# EAGLE library part LTM8062 (library Neel)
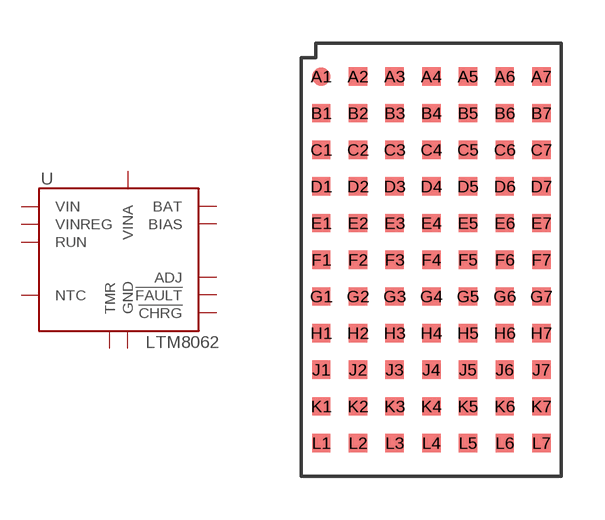
[diagram p81: symbol with the pads of LGA-77; footprint LGA-77]

Designator prefix -

## LTM8062  [LGA-77]
A1  GND
A2  GND
A3  GND
A4  GND
A5  GND
A6  BAT
A7  BAT
B1  GND
B2  GND
B3  GND
B4  GND
B5  GND
B6  BAT
B7  BAT
C1  GND
C2  GND
C3  GND
C4  GND
C5  GND
C6  BAT
C7  BAT
D1  GND
D2  GND
D3  GND
D4  GND
D5  GND
D6  BAT
D7  BAT
E1  GND
E2  GND
E3  GND
E4  GND
E5  GND
E6  BAT
E7  BAT
F1  GND
F2  GND
F3  GND
F4  GND
F5  GND
F6  BAT
F7  BAT
G1  GND
G2  GND
G3  GND
G4  GND
G5  GND
G6  GND
G7  BIAS
H1  GND
H2  GND
H3  GND
H4  GND
H5  GND
H6  NTC
H7  ADJ
J1  GND
J2  GND
J3  GND
J4  GND
J5  GND
J6  TMR
J7  !FAULT
K1  VIN
K2  VIN
K3  VIN
K4  VINA
K5  VINA
K6  RUN
K7  !CHRG
L1  VIN
L2  VIN
L3  VIN
L4  VINA
L5  VINA
L6  VINREG
L7  GND

## Footprint LGA-77 (pad centres in mm)
smd 0.635 x 0.635: A1 -3.81,6.35; A2 -2.54,6.35; A3 -1.27,6.35; A4 0,6.35; A5 1.27,6.35; A6 2.54,6.35; A7 3.81,6.35; B1 -3.81,5.08; B2 -2.54,5.08; B3 -1.27,5.08; B4 0,5.08; B5 1.27,5.08; B6 2.54,5.08; B7 3.81,5.08; C1 -3.81,3.81; C2 -2.54,3.81; C3 -1.27,3.81; C4 0,3.81; C5 1.27,3.81; C6 2.54,3.81; C7 3.81,3.81; D1 -3.81,2.54; D2 -2.54,2.54; D3 -1.27,2.54; D4 0,2.54; D5 1.27,2.54; D6 2.54,2.54; D7 3.81,2.54; E1 -3.81,1.27; E2 -2.54,1.27; E3 -1.27,1.27; E4 0,1.27; E5 1.27,1.27; E6 2.54,1.27; E7 3.81,1.27; F1 -3.81,0; F2 -2.54,0; F3 -1.27,0; F4 0,0; F5 1.27,0; F6 2.54,0; F7 3.81,0; G1 -3.81,-1.27; G2 -2.54,-1.27; G3 -1.27,-1.27; G4 0,-1.27; G5 1.27,-1.27; G6 2.54,-1.27; G7 3.81,-1.27; H1 -3.81,-2.54; H2 -2.54,-2.54; H3 -1.27,-2.54; H4 0,-2.54; H5 1.27,-2.54; H6 2.54,-2.54; H7 3.81,-2.54; J1 -3.81,-3.81; J2 -2.54,-3.81; J3 -1.27,-3.81; J4 0,-3.81; J5 1.27,-3.81; J6 2.54,-3.81; J7 3.81,-3.81; K1 -3.81,-5.08; K2 -2.54,-5.08; K3 -1.27,-5.08; K4 0,-5.08; K5 1.27,-5.08; K6 2.54,-5.08; K7 3.81,-5.08; L1 -3.81,-6.35; L2 -2.54,-6.35; L3 -1.27,-6.35; L4 0,-6.35; L5 1.27,-6.35; L6 2.54,-6.35; L7 3.81,-6.35